# EAGLE library part WE-PPTI_1209 (library Eagle_WE-PPTI (rev24c))
WE-PPTI Push-Pull Transformers Characteristics Small size Surface mount Low profile Operating temp: -40°C to 125°C Functional or Reinforced Insulation Applications Isolated interface power supply for CAN, RS-485, RS-422, RS-232, SPI, I2C, lower-power LAN Industrial automation Process control Medical equipment PLC analog and digital I/O modules Isolated gate driver power supplies AC motor drives Uninterruptible power supplies (UPS) Solar inverters Polyphase energy meters Protection relays and IEDs <https://www.we-online.com/components/media/o715993v209%20Family-PPTI.jpg> Details see: www.we-online.com/en/components/products/WE-PPTI <www.we-online.com/catalog/WE-PPTI/?utm_source=eagle_model&utm_medium=description_link&utm_campaign=eisos_eagle> Updated by Ella Wu 2024-02-28 2024 (C) Wurth Elektronik
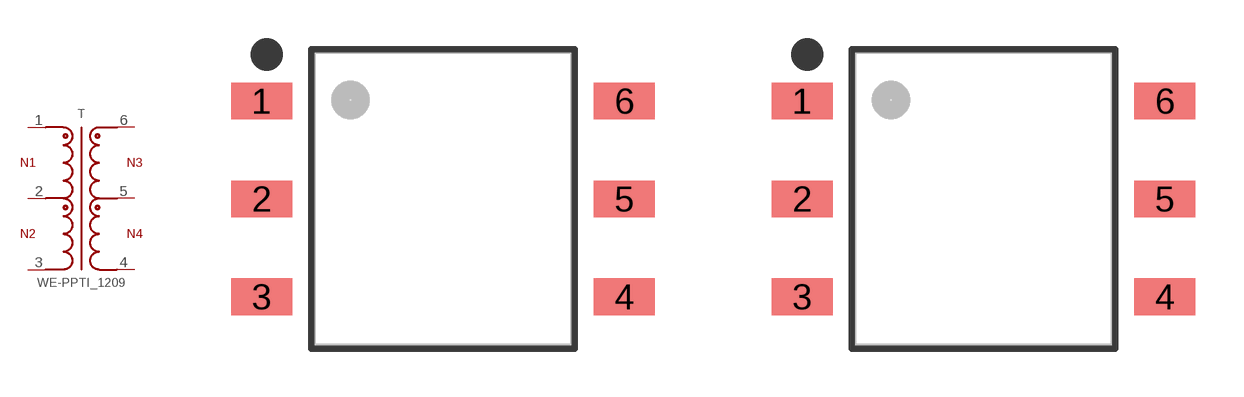
[diagram p6: symbol with the pads of WE-PPTI_1209_L12.7W9.14H7.62; footprints WE-PPTI_1209_L12.7W9.14H7.62, WE-PPTI_1209_L12.95W9.14H7.62]

Designator prefix T

## WE-PPTI_1209_750313626_L12.7W9.14H7.62 (DATASHEET-URL: https://www.we-online.com/redexpert/spec/750313626?ae; FSWITCH: 250 - 550kHz; HEIGHT: 7.62mm; IOUT1: 500mA; L: 340uH; LENGTH: 12.7mm; MOUNT: SMT; N: 1:2; PART-NUMBER: 750313626; SIZE: 1209; TYPE-OF-INSULATION: Reinforced; VALUE: 750313626; VIN: 3.3 V (DC); VOLTAGE-TIME: 10Vus; VOUT1: 5V; VT: 5000 V(AC); WIDTH: 9.14mm), WE-PPTI_1209_750313638_L12.7W9.14H7.62 (DATASHEET-URL: https://www.we-online.com/redexpert/spec/750313638?ae; FSWITCH: 300 - 620kHz; HEIGHT: 7.62mm; IOUT1: 650mA; L: 340uH; LENGTH: 12.7mm; MOUNT: SMT; N: 1:1.3; PART-NUMBER: 750313638; SIZE: 1209; TYPE-OF-INSULATION: Reinforced; VALUE: 750313638; VIN: 5 V (DC); VOLTAGE-TIME: 10Vus; VOUT1: 5V; VT: 5000 V(AC); WIDTH: 9.14mm), WE-PPTI_1209_750313734_L12.7W9.14H7.62 (DATASHEET-URL: https://www.we-online.com/redexpert/spec/750313734?ae; FSWITCH: 300 - 620kHz; HEIGHT: 7.62mm; IOUT1: 800mA; L: 340uH; LENGTH: 12.7mm; MOUNT: SMT; N: 1:1.1; PART-NUMBER: 750313734; SIZE: 1209; TYPE-OF-INSULATION: Reinforced; VALUE: 750313734; VIN: 5 V (DC); VOLTAGE-TIME: 10Vus; VOUT1: 5V; VT: 5000 V(AC); WIDTH: 9.14mm), WE-PPTI_1209_750313769_L12.7W9.14H7.62 (DATASHEET-URL: https://www.we-online.com/redexpert/spec/750313769?ae; FSWITCH: 250 - 550kHz; HEIGHT: 7.62mm; IOUT1: 600mA; L: 340uH; LENGTH: 12.7mm; MOUNT: SMT; N: 1:1.7; PART-NUMBER: 750313769; SIZE: 1209; TYPE-OF-INSULATION: Reinforced; VALUE: 750313769; VIN: 3.3 V (DC); VOLTAGE-TIME: 10Vus; VOUT1: 5V; VT: 5000 V(AC); WIDTH: 9.14mm), WE-PPTI_1209_750315229_L12.7W9.14H7.62 (DATASHEET-URL: https://www.we-online.com/redexpert/spec/750315229?ae; FSWITCH: 350 - 550kHz; HEIGHT: 7.62mm; IOUT1: 900mA; L: 384uH; LENGTH: 12.7mm; MOUNT: SMT; N: 1:1.1; PART-NUMBER: 750315229; SIZE: 1209; TYPE-OF-INSULATION: Reinforced; VALUE: 750315229; VIN: 5 V (DC); VOLTAGE-TIME: 8.8Vus; VOUT1: 5.8V; VT: 5000 V(AC); WIDTH: 9.14mm), WE-PPTI_1209_750315230_L12.7W9.14H7.62 (DATASHEET-URL: https://www.we-online.com/redexpert/spec/750315230?ae; FSWITCH: 350 - 550kHz; HEIGHT: 7.62mm; IOUT1: 750mA; L: 384uH; LENGTH: 12.7mm; MOUNT: SMT; N: 1:1.4; PART-NUMBER: 750315230; SIZE: 1209; TYPE-OF-INSULATION: Reinforced; VALUE: 750315230; VIN: 5 V (DC); VOLTAGE-TIME: 8.8Vus; VOUT1: 6.9V; VT: 5000 V(AC); WIDTH: 9.14mm), WE-PPTI_1209_750315231_L12.7W9.14H7.62 (DATASHEET-URL: https://www.we-online.com/redexpert/spec/750315231?ae; FSWITCH: 350 - 550kHz; HEIGHT: 7.62mm; IOUT1: 550mA; L: 384uH; LENGTH: 12.7mm; MOUNT: SMT; N: 1:1.6; PART-NUMBER: 750315231; SIZE: 1209; TYPE-OF-INSULATION: Reinforced; VALUE: 750315231; VIN: 3.3 V (DC); VOLTAGE-TIME: 8.8Vus; VOUT1: 5.4V; VT: 5000 V(AC); WIDTH: 9.14mm), WE-PPTI_1209_750315232_L12.7W9.14H7.62 (DATASHEET-URL: https://www.we-online.com/redexpert/spec/750315232?ae; FSWITCH: 350 - 550kHz; HEIGHT: 7.62mm; IOUT1: 450mA; L: 384uH; LENGTH: 12.7mm; MOUNT: SMT; N: 1:2; PART-NUMBER: 750315232; SIZE: 1209; TYPE-OF-INSULATION: Reinforced; VALUE: 750315232; VIN: 3.3 V (DC); VOLTAGE-TIME: 8.8Vus; VOUT1: 6.6V; VT: 5000 V(AC); WIDTH: 9.14mm), WE-PPTI_1209_750319845_L12.7W9.14H7.62 (DATASHEET-URL: https://www.we-online.com/redexpert/spec/750314781?ae; FSWITCH: 250 - 550kHz; HEIGHT: 7.62mm; IOUT1: 650mA; L: 340uH; LENGTH: 12.7mm; MOUNT: SMT; N: 1:1.56; PART-NUMBER: 750319845; SIZE: 1209; TYPE-OF-INSULATION: Reinforced; VALUE: 750319845; VIN: 3.3 V (DC); VOLTAGE-TIME: 11Vus; VOUT1: 5V; VT: 5000 V(AC); WIDTH: 9.14mm), WE-PPTI_1209_750320340_L12.7W9.14H7.62 (DATASHEET-URL: https://www.we-online.com/redexpert/spec/750314781?ae; FSWITCH: 220kHz; HEIGHT: 7.62mm; IOUT1: 250mA; L: 200uH; LENGTH: 12.7mm; MOUNT: SMT; N: 1:3.5; PART-NUMBER: 750320340; SIZE: 1209; TYPE-OF-INSULATION: Reinforced; VALUE: 750320340; VIN: 5 V (DC); VOLTAGE-TIME: 16Vus; VOUT1: 17V; VT: 6000 V(AC); WIDTH: 9.14mm), WE-PPTI_1209_750343725_L12.7W9.14H7.62 (DATASHEET-URL: https://www.we-online.com/redexpert/spec/750343725?ae; FSWITCH: 420kHz; HEIGHT: 7.62mm; IOUT1: 250mA; L: 250uH; LENGTH: 12.7mm; MOUNT: SMT; N: 1 : 3.9; PART-NUMBER: 750343725; SIZE: 1209; TYPE-OF-INSULATION: Reinforced; VALUE: 750343725; VIN: 5 V (DC); VOLTAGE-TIME: 9Vus; VOUT1: 19.5V; VT: 5000 V(AC); WIDTH: 9.14mm)  [WE-PPTI_1209_L12.7W9.14H7.62]
1  1  pas
2  2  pas
3  3  pas
4  4  pas
5  5  pas
6  6  pas

## WE-PPTI_1209_750342879_L12.95W9.14H7.62 (DATASHEET-URL: https://www.we-online.com/redexpert/spec/750342879?ae; FSWITCH: 420kHz; HEIGHT: 7.62mm; IOUT1: 250mA; L: 200uH; LENGTH: 12.7mm; MOUNT: SMT; N: 1:3.5; PART-NUMBER: 750342879; SIZE: 1209; TYPE-OF-INSULATION: Reinforced; VALUE: 750342879; VIN: 5 V (DC); VOLTAGE-TIME: 9Vus; VOUT1: 17V; VT: 5000 V(AC); WIDTH: 9.14mm), WE-PPTI_1209_750343341_L12.95W9.14H7.62 (DATASHEET-URL: https://www.we-online.com/redexpert/spec/750343341?ae; FSWITCH: 400kHz; HEIGHT: 7.62mm; IOUT1: 350mA; L: 152uH; LENGTH: 12.7mm; MOUNT: SMT; N: 1:2.6; PART-NUMBER: 750343341; SIZE: 1209; TYPE-OF-INSULATION: Reinforced; VALUE: 750343341; VIN: 5 V (DC); VOLTAGE-TIME: 7.8Vus; VOUT1: 12.5V; VT: 5000 V(AC); WIDTH: 9.14mm)  [WE-PPTI_1209_L12.95W9.14H7.62]
Pads as for WE-PPTI_1209_L12.7W9.14H7.62

## Footprint WE-PPTI_1209_L12.7W9.14H7.62 (pad centres in mm)
WE-PPTI Push-Pull Transformers Size: 1209, SMT, 6pins LXWXH=12.7X9.14X7.62mm
smd 1.9 x 1.14: 1 -5.655,3.05; 2 -5.655,0; 3 -5.655,-3.05; 4 5.655,-3.05; 5 5.655,0; 6 5.655,3.05

## Footprint WE-PPTI_1209_L12.95W9.14H7.62 (pad centres in mm)
WE-PPTI Push-Pull Transformers Size: 1209, SMT, 6pins LXWXH=12.95X9.14X7.62mm
smd 1.9 x 1.14: 1 -5.655,3.05; 2 -5.655,0; 3 -5.655,-3.05; 4 5.655,-3.05; 5 5.655,0; 6 5.655,3.05